# Altium integrated library Integrated_Library_Acura.IntLib: 93 symbols (part 1 of 2)
Pins are listed as number, name and electrical type; pins without a type are passive.

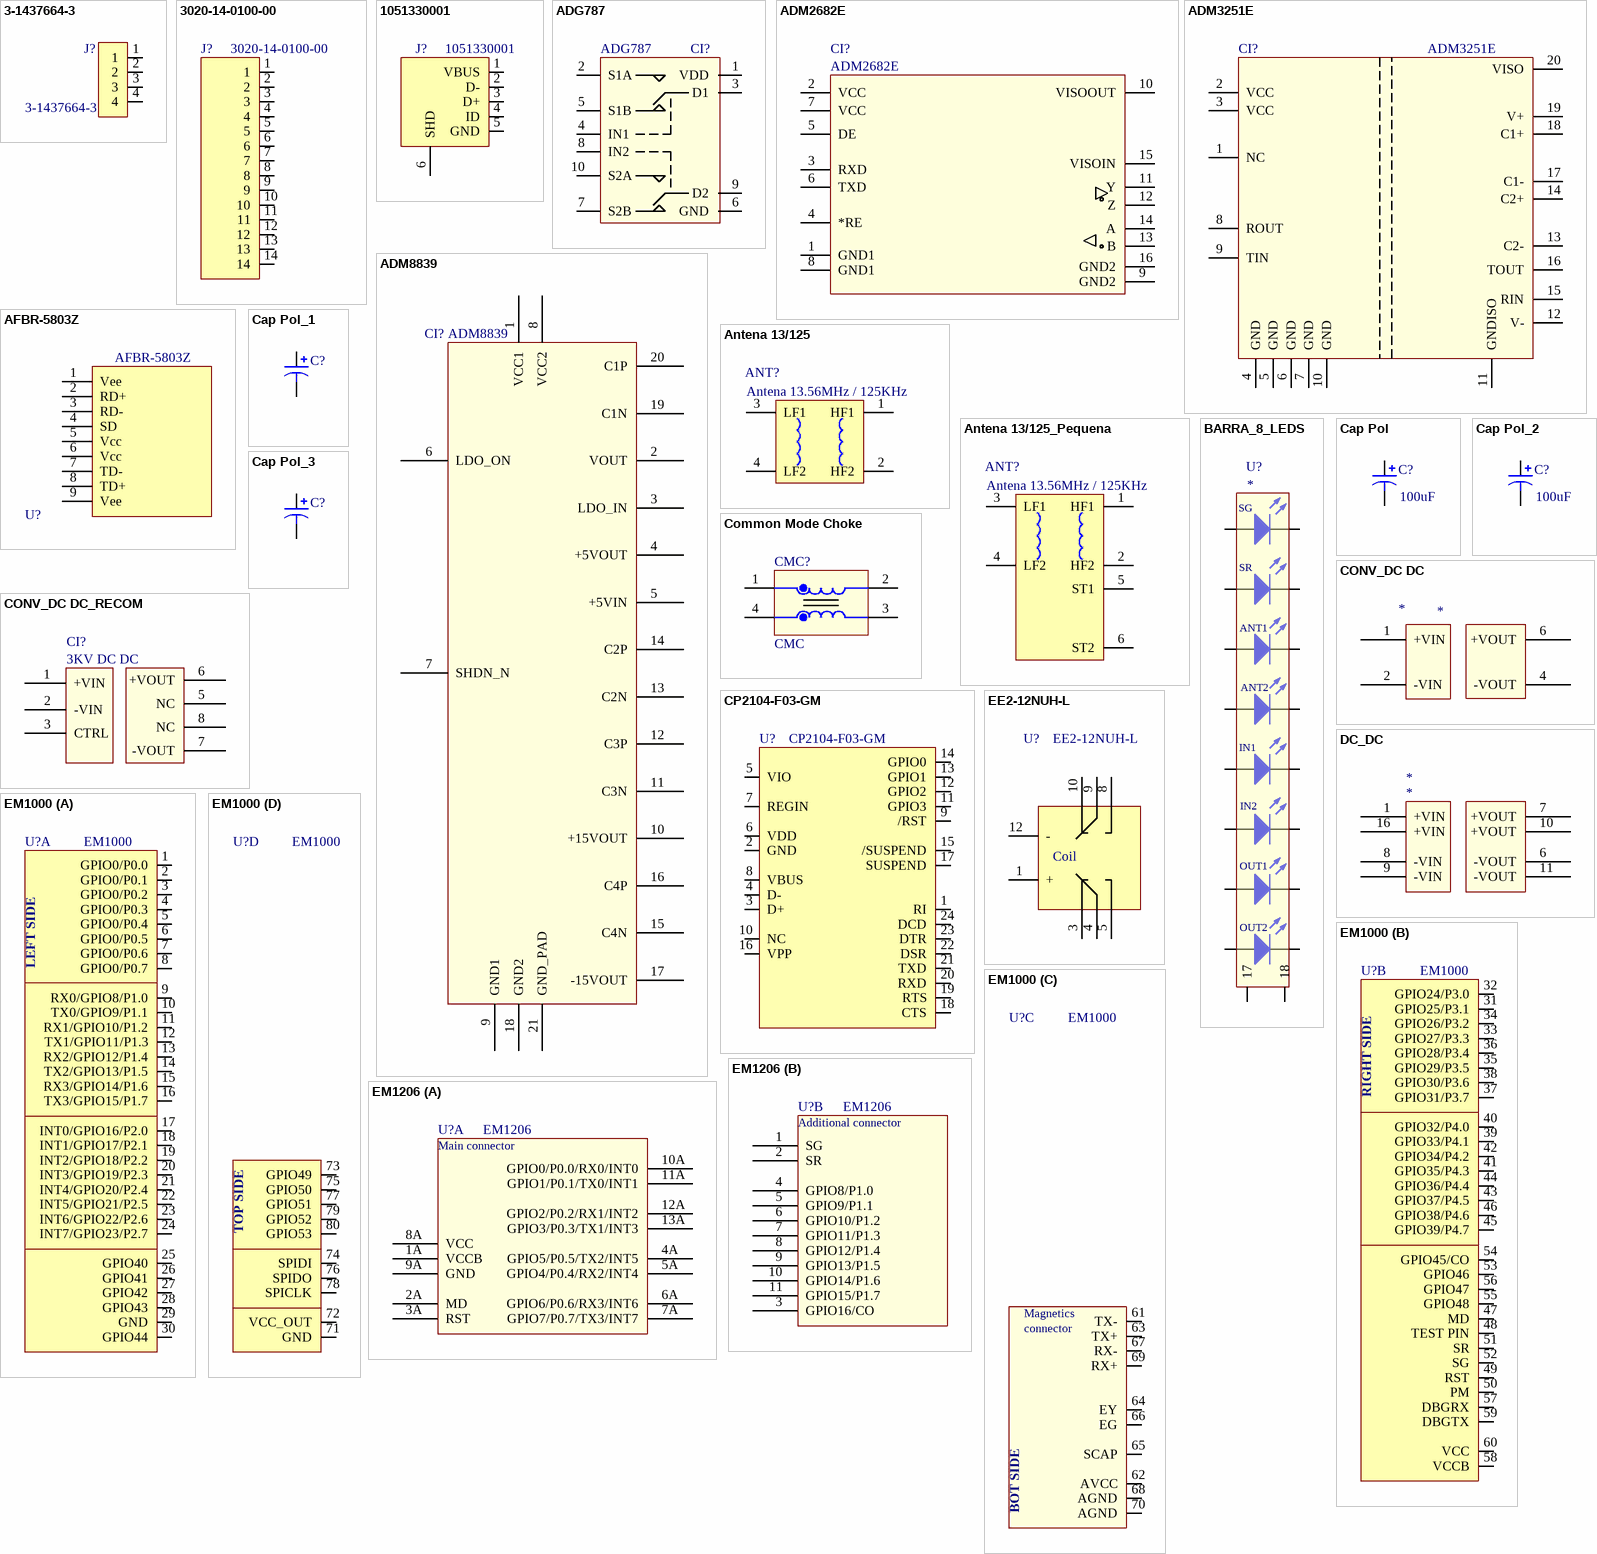
[diagram p0: symbols 3-1437664-3 to EM1206]

## 3-1437664-3
designator J?, comment Manufacturer Part Number: 3-1437664-3  (hidden comment: CONN BARRIER STRIP 4CIRC .375)
Manufacturer: TE Connectivity AMP Connectors; Number of Circuits: 4; Pitch: 0.375" (9.53mm); Current Rating: 20A; Voltage Rating: 300V; Wire Gauge: 12-22 AWG; Top Termination: Screws with Captive Plate; Bottom Termination: PC Pin; Barrier Type: 2 Wall (Dual); Material - Insulation: Polyamide (PA), Nylon; Material Flammability Rating: UL94 V-0; Supplier 1: Digi-Key; RoHS: RoHS Compliant; Category: Connectors, Interconnects; Stock 1: 1612; Pricing 1: 1=1.71, 25=1.62, 50=1.38, 100=1.26, 200=1.06, 500=1.00252 (USD); Packaging: Bulk; Terminal Block Type: Barrier Block; Number of Wire Entries: 4; Number of Rows: 1; Features: -; Color: Black; Terminal Screw Material: Steel; Terminal Screw Finish: Zinc; Mounting Type: Through Hole; Operating Temperature: -40°C ~ 105°C; ComponentLink1URL: http://www.te.com/commerce/DocumentDelivery/DDEController?Action=srchrtrv&DocNm=3-1437664-0&DocType=Customer+Drawing&DocLang=English; ComponentLink1Description: http://www.te.com/commerce/DocumentDelivery/DDEController?Action=srchrtrv&DocNm=3-1437664-0&DocType=Customer+Drawing&DocLang=English; Supplier Part Number 1: A98497-ND
footprint TERM_BARRIER_BLOCK_4p
pins: 1, 2, 3, 4

## 3020-14-0100-00
designator J?, comment Manufacturer Part Number: 3020-14-0100-00  (hidden comment: IDC BOX HEADER .100" 14POS)
Manufacturer: CNC Tech; Connector Type: Header, Shrouded; Number of Positions: 14; Number of Positions Loaded: All; Pitch: 0.100" (2.54mm); Supplier 1: Digi-Key; RoHS: RoHS Compliant; Category: Connectors, Interconnects; Stock 1: 3272; Pricing 1: 1=0.54, 10=0.51, 25=0.4592, 50=0.408, 100=0.391, 250=0.357, 500=0.34, 1000=0.2805, 2500=0.255 (USD); Packaging: Tray; Contact Type: Male Pin; Number of Rows: 2; Row Spacing: 0.100" (2.54mm); Contact Mating Length: -; Mounting Type: Through Hole; Termination: Solder; Fastening Type: -; Features: -; Contact Finish: Gold; Contact Finish Thickness: Flash; Color: -; ComponentLink1URL: http://cnctech.us/pdfs/3020-XX-0100-00.pdf; ComponentLink1Description: http://cnctech.us/pdfs/3020-XX-0100-00.pdf; Supplier Part Number 1: 1175-1610-ND
footprint BOX_HEADER_14p
pins: 1, 2, 3, 4, 5, 6, 7, 8, 9, 10, 11, 12, 13, 14

## 1051330001
designator J?, comment Manufacturer Part Number: 1051330001  (hidden comment: MICRO USB B REC. VERTICAL TYPE)
Manufacturer: Molex, LLC; Connector Type: USB - micro B; Number of Contacts: 5; Gender: Receptacle; Supplier 1: Digi-Key; RoHS: RoHS Compliant; Category: Connectors, Interconnects; Stock 1: 83675; Pricing 1: 1=1.06, 10=0.928, 25=0.8732, 50=0.837, 100=0.8005, 250=0.72776 (USD); Packaging: Cut Tape (CT); Specifications: -; Mounting Type: Surface Mount Vertical; Features: Cover, Shielded; Ingress Protection: -; ComponentLink1URL: http://www.molex.com/pdm_docs/sd/1051330001_sd.pdf; ComponentLink1Description: http://www.molex.com/pdm_docs/sd/1051330001_sd.pdf; Supplier Part Number 1: WM9734CT-ND
footprint MICRO_USB-B_90deg
pins: 1 VBUS, 2 D-, 3 D+, 4 ID, 5 GND, 6 SHD

## ADG787
designator CI?
Part#: ADG787BRMZ; Fabricante: Analog Devices; Cod. Protheus: *
footprint 10-MSOP - S/GND
pins: 1 VDD (power), 2 S1A (power), 3 D1 (power), 4 IN1 (power), 5 S1B (power), 6 GND (power), 7 S2B (power), 8 IN2 (power), 9 D2 (power), 10 S2A (power)

## ADM2682E
designator CI?
5 kV rms Signal and Power Isolated  RS-485 Transceiver with ±15 kV ESD; Part#: ADM2682EBRIZ; Cod. Protheus: ???; Fabricante: Analog Devices; Descrição: Isolated  RS-485 Transceiver
footprint RI-16-1 (For ADM2682E)
pins: 1 GND1, 2 VCC, 3 RXD, 4 *RE, 5 DE, 6 TXD, 7 VCC, 8 GND1, 9 GND2, 10 VISOOUT, 11 Y, 12 Z, 13 B, 14 A, 15 VISOIN, 16 GND2

## ADM3251E
designator CI?
Isolated, Single-Channel  RS-232 Line Driver/Receiver; Part#: ADM3251EARWZ; Fabricante: Analog Devices; Cod. Protheus: ???; Descrição: Isolated, Single-Channel  RS-232 Line Driver/Receiver
footprint RW-20 (For ADM3251E)
pins: 1 NC, 2 VCC, 3 VCC, 4 GND, 5 GND, 6 GND, 7 GND, 8 ROUT, 9 TIN, 10 GND, 11 GNDISO, 12 V-, 13 C2-, 14 C2+, 15 RIN, 16 TOUT, 17 C1-, 18 C1+, 19 V+, 20 VISO

## ADM8839
designator CI?
IC CHARGE PUMP REG TFT 20LFCSP; Part#: ADM8839ACPZ; Fabricante: Analog Devices Inc; Descrição: IC CHARGE PUMP REG TFT 20LFCSP; DigiKey Part#: ADM8839ACPZ-ND
footprint LFCSP-VQ
pins: 1 VCC1, 2 VOUT, 3 LDO_IN, 4 +5VOUT, 5 +5VIN, 6 LDO_ON, 7 SHDN_N, 8 VCC2, 9 GND1, 10 +15VOUT, 11 C3N, 12 C3P, 13 C2N, 14 C2P, 15 C4N, 16 C4P, 17 -15VOUT, 18 GND2, 19 C1N, 20 C1P, 21 GND_PAD

## AFBR-5803Z
designator U?  Manufacturer Part Number: AFBR-5803Z  (hidden comment: *)
TXRX OPT 1X9 100MBPS DUPLEX SC; Manufacturer: Broadcom Limited; Wavelength: 1300nm; Voltage - Supply: 3.3V, 5V; Supplier 1: Digi-Key; RoHS: RoHS Compliant; Category: Optoelectronics; Stock 1: 279; Pricing 1: 1=34.51, 10=30.495, 50=26.643, 100=23.2725, 250=22.06876, 500=21.3465, 1000=20.0625, 2500=19.66125, 5000=19.26 (USD); Data Rate: 100Mbps; Applications: General Purpose; Connector Type: SC; Mounting Type: Through Hole; ComponentLink1URL: http://www.avagotech.com/docs/AV02-0606EN; ComponentLink1Description: http://www.avagotech.com/docs/AV02-0606EN; Supplier Part Number 1: 516-1991-ND
footprint AFBR-5803Z
pins: 1 Vee, 2 RD+, 3 RD-, 4 SD, 5 Vcc, 6 Vcc, 7 TD-, 8 TD+, 9 Vee

## Antena 13/125
designator ANT?, comment Antena 13.56MHz / 125KHz
footprint Antena 13/125 - Pequena
pins: 1 HF1, 2 HF2, 3 LF1, 4 LF2

## Antena 13/125_Pequena
designator ANT?, comment Antena 13.56MHz / 125KHz
footprint Antena 13/125 - Pequena
pins: 1 HF1, 2 HF2, 3 LF1, 4 LF2, 5 ST1, 6 ST2

## BARRA_8_LEDS
designator U?
footprint BARRA_8_LEDS_3MM
pins: 1 A, 2 K, 3 A, 4 K, 5 A, 6 K, 7 A, 8 K, 9 A, 10 K, 11 A, 12 K, 13 A, 14 K, 15 A, 16 K, 17, 18
text: SG; SR; ANT1; ANT2; IN1; IN2; OUT1; OUT2

## Cap Pol
designator C?  value 100uF  (hidden comment: Cap Pol)
CAP ALUM 100UF 20% 63V SMD; Published: 8-Jun-2000; LatestRevisionDate: 17-Jul-2002; LatestRevisionNote: Re-released for DXP Platform.; PackageReference: POLAR0.8; Publisher: Altium Limited; PackageDescription: Polarized Capacitor; 2 Leads
simulation model CAP (Capacitor)
signal-integrity model Cap Pol
footprint CAPPR2.5-6.3X5 (Capacitor, Electrolytic, Radial; Body 6.3 x 5 mm (Dia.xH typ); Pin Spacing 2.5 mm (typ))
footprint CAPPR5-10X12.5 (Capacitor, Electrolytic, Radial; Body 10 x 12.5 mm (Dia.xH typ); Pin Spacing 5 mm (typ))
footprint Radial, Can 8MM- SMD (Radial, Can - SMD)
footprint Radial, Can 10mm - SMD (Radial, Can - SMD (D=10mm, H=10mm))
footprint Radial, Can 6.3MM- SMD (Radial, Can - SMD Diameter 6.3mm)
footprint CAPPR5-10X20 (Capacitor, Electrolytic, Radial; Body 10 x 5 mm (Dia.xH typ); Pin Spacing 5 mm (typ))
pins: 1, 2
1 alternate drawing of the same symbol

## Cap Pol_1
designator C?, comment Cap Pol  (value not drawn)
Polarized Capacitor (Axial); Value: 100pF; Published: 8-Jun-2000; LatestRevisionDate: 17-Jul-2002; LatestRevisionNote: Re-released for DXP Platform.; PackageReference: POLAR0.8; Publisher: Altium Limited; PackageDescription: Polarized Capacitor; 2 Leads
simulation model CAP (Capacitor)
signal-integrity model Cap Pol
footprint CAPPR2.5-6.3X5 (Capacitor, Electrolytic, Radial; Body 6.3 x 5 mm (Dia.xH typ); Pin Spacing 2.5 mm (typ))
footprint CAPPR5-10X12.5 (Capacitor, Electrolytic, Radial; Body 10 x 12.5 mm (Dia.xH typ); Pin Spacing 5 mm (typ))
footprint Radial, Can 8MM- SMD (Radial, Can - SMD)
footprint Radial, Can 10mm - SMD (Radial, Can - SMD (D=10mm, H=10mm))
footprint Radial, Can 6.3MM- SMD (Radial, Can - SMD Diameter 6.3mm)
footprint CAPPR5-10X20 (Capacitor, Electrolytic, Radial; Body 10 x 5 mm (Dia.xH typ); Pin Spacing 5 mm (typ))
pins: 1, 2
1 alternate drawing of the same symbol

## Cap Pol_2
designator C?, comment value 100uF  (hidden comment: Cap Pol)
CAP ALUM 100UF 20% 63V SMD; Published: 8-Jun-2000; LatestRevisionDate: 17-Jul-2002; LatestRevisionNote: Re-released for DXP Platform.; PackageReference: POLAR0.8; Publisher: Altium Limited; PackageDescription: Polarized Capacitor; 2 Leads
simulation model CAP (Capacitor)
signal-integrity model Cap Pol
footprint CAPPR2.5-6.3X5 (Capacitor, Electrolytic, Radial; Body 6.3 x 5 mm (Dia.xH typ); Pin Spacing 2.5 mm (typ))
footprint CAPPR5-10X12.5 (Capacitor, Electrolytic, Radial; Body 10 x 12.5 mm (Dia.xH typ); Pin Spacing 5 mm (typ))
footprint Radial, Can 8MM- SMD (Radial, Can - SMD)
footprint Radial, Can 10mm - SMD (Radial, Can - SMD (D=10mm, H=10mm))
footprint Radial, Can 6.3MM- SMD (Radial, Can - SMD Diameter 6.3mm)
footprint CAPPR5-10X20 (Capacitor, Electrolytic, Radial; Body 10 x 5 mm (Dia.xH typ); Pin Spacing 5 mm (typ))
pins: 1, 2
1 alternate drawing of the same symbol

## Cap Pol_3
designator C?, comment Cap Pol  (value not drawn)
Polarized Capacitor (Axial); Value: 100pF; Published: 8-Jun-2000; LatestRevisionDate: 17-Jul-2002; LatestRevisionNote: Re-released for DXP Platform.; PackageReference: POLAR0.8; Publisher: Altium Limited; PackageDescription: Polarized Capacitor; 2 Leads
simulation model CAP (Capacitor)
signal-integrity model Cap Pol
footprint CAPPR2.5-6.3X5 (Capacitor, Electrolytic, Radial; Body 6.3 x 5 mm (Dia.xH typ); Pin Spacing 2.5 mm (typ))
footprint CAPPR5-10X12.5 (Capacitor, Electrolytic, Radial; Body 10 x 12.5 mm (Dia.xH typ); Pin Spacing 5 mm (typ))
footprint Radial, Can 8MM- SMD (Radial, Can - SMD)
footprint Radial, Can 10mm - SMD (Radial, Can - SMD (D=10mm, H=10mm))
footprint Radial, Can 6.3MM- SMD (Radial, Can - SMD Diameter 6.3mm)
footprint CAPPR5-10X20 (Capacitor, Electrolytic, Radial; Body 10 x 5 mm (Dia.xH typ); Pin Spacing 5 mm (typ))
pins: 1, 2
1 alternate drawing of the same symbol

## Common Mode Choke
designator CMC?, comment CMC
XFRMR MAGNETIC 1PORT 1:1 10/100
footprint Common Mode Choke
pins: 1, 2, 3, 4

## CONV_DC DC
designator *
footprint NMR100 (CONV DC DC)
pins: 1 +VIN (power), 2 -VIN (power), 4 -VOUT (power), 6 +VOUT (power)

## CONV_DC DC_RECOM
designator CI?, comment 3KV DC DC
CONV DC/DC 1W SGL 5V OUT SIP8; Part#: RSO-2405SZ/H3; Fabricante: Recom Power; Descrição: CONV DC/DC 1W SGL 5V OUT SIP8; DigiKey Part#: 945-1331-ND
footprint RSO-XXXX (CONV DC DC RECOM)
pins: 1 +VIN, 2 -VIN, 3 CTRL, 5 NC, 6 +VOUT, 7 -VOUT, 8 NC

## CP2104-F03-GM
designator U?  Manufacturer Part Number: CP2104-F03-GM  (hidden comment: *)
IC SGL USB-TO-UART BRIDGE 24QFN; Manufacturer: Silicon Labs; Protocol: USB; Function: Bridge, USB to UART; Interface: UART; Standards: USB 2.0; Voltage - Supply: 1.8V, 3 V ~ 3.6 V; Current - Supply: 17mA; Supplier 1: Digi-Key; RoHS: RoHS Compliant; Category: Integrated Circuits (ICs); Stock 1: 6723; Pricing 1: 1=1.5, 25=1.4456, 100=1.3899, 1000=1.3108 (USD); Packaging: Tube; Operating Temperature: -40°C ~ 85°C; Package / Case: 24-WFQFN Exposed Pad; Supplier Device Package: 24-QFN (4x4); ComponentLink1URL: https://www.silabs.com/Support%20Documents/TechnicalDocs/cp2104.pdf; ComponentLink1Description: https://www.silabs.com/Support%20Documents/TechnicalDocs/cp2104.pdf; Supplier Part Number 1: 336-2008-5-ND
footprint Quad24
pins: 1 RI, 2 GND, 3 D+, 4 D-, 5 VIO, 6 VDD, 7 REGIN, 8 VBUS, 9 /RST, 10 NC, 11 GPIO3, 12 GPIO2, 13 GPIO1, 14 GPIO0, 15 /SUSPEND, 16 VPP, 17 SUSPEND, 18 CTS, 19 RTS, 20 RXD, 21 TXD, 22 DSR, 23 DTR, 24 DCD

## DC_DC
designator *
footprint CONV_DC_DC_SRS
pins: 1 +VIN (power), 6 -VOUT (power), 7 +VOUT (power), 8 -VIN (power), 9 -VIN (power), 10 +VOUT (power), 11 -VOUT (power), 16 +VIN (power)

## EE2-12NUH-L
designator U?, comment Manufacturer Part Number: EE2-12NUH-L  (hidden comment: RELAY GEN PURPOSE DPDT 2A 12V)
Manufacturer: Kemet; Relay Type: General Purpose; Coil Type: Non Latching; Coil Current: 11.7mA; Coil Voltage: 12VDC; Contact Form: DPDT (2 Form C); Switching Voltage: 250VAC, 220VDC - Max; Turn On Voltage (Max): 9 VDC; Turn Off Voltage (Min): 1.2 VDC; Operate Time: 2ms; Release Time: 1ms; Coil Power: 140 mW; Coil Resistance: 1.03 kOhms; Supplier 1: Digi-Key; RoHS: RoHS Compliant; Category: Relays; Stock 1: 1500; Pricing 1: 500=1.27576, 1000=1.1907, 2500=1.16944, 5000=1.14818, 12500=1.13116 (USD); Packaging: Tape & Reel (TR); Contact Rating (Current): 2A; Features: -; Mounting Type: Surface Mount; Termination Style: Gull Wing; Contact Material: Silver Alloy, Gold Alloy; Operating Temperature: -40°C ~ 85°C; ComponentLink1URL: http://www.kemet.com/docfinder?Partnumber=EE2-12NUH-L; ComponentLink1Description: http://www.kemet.com/docfinder?Partnumber=EE2-12NUH-L; Supplier Part Number 1: 399-10996-2-ND
footprint RELAY_2C_SFM (GP Relay SR2M Surface Mount)
pins: 1 +, 3 NC2, 4 CO2, 5 NO2, 8 NO1, 9 CO1, 10 NC1, 12 -
text: Coil

## EM1000
designator U?
BASIC-programmable embedded module
footprint EM1000 (Mod Tibbo EM1000 without RJ45)
part A pins: 1 GPIO0/P0.0, 2 GPIO0/P0.1, 3 GPIO0/P0.2, 4 GPIO0/P0.3, 5 GPIO0/P0.4, 6 GPIO0/P0.5, 7 GPIO0/P0.6, 8 GPIO0/P0.7, 9 RX0/GPIO8/P1.0, 10 TX0/GPIO9/P1.1, 11 RX1/GPIO10/P1.2, 12 TX1/GPIO11/P1.3, 13 RX2/GPIO12/P1.4, 14 TX2/GPIO13/P1.5, 15 RX3/GPIO14/P1.6, 16 TX3/GPIO15/P1.7, 17 INT0/GPIO16/P2.0, 18 INT1/GPIO17/P2.1, 19 INT2/GPIO18/P2.2, 20 INT3/GPIO19/P2.3, 21 INT4/GPIO20/P2.4, 22 INT5/GPIO21/P2.5, 23 INT6/GPIO22/P2.6, 24 INT7/GPIO23/P2.7, 25 GPIO40, 26 GPIO41, 27 GPIO42, 28 GPIO43, 29 GND, 30 GPIO44
part B pins: 31 GPIO25/P3.1, 32 GPIO24/P3.0, 33 GPIO27/P3.3, 34 GPIO26/P3.2, 35 GPIO29/P3.5, 36 GPIO28/P3.4, 37 GPIO31/P3.7, 38 GPIO30/P3.6, 39 GPIO33/P4.1, 40 GPIO32/P4.0, 41 GPIO35/P4.3, 42 GPIO34/P4.2, 43 GPIO37/P4.5, 44 GPIO36/P4.4, 45 GPIO39/P4.7, 46 GPIO38/P4.6, 47 MD, 48 TEST PIN, 49 RST, 50 PM, 51 SR, 52 SG, 53 GPIO46, 54 GPIO45/CO, 55 GPIO48, 56 GPIO47, 57 DBGRX, 58 VCCB, 59 DBGTX, 60 VCC
part C pins: 61 TX-, 62 AVCC, 63 TX+, 64 EY, 65 SCAP, 66 EG, 67 RX-, 68 AGND, 69 RX+, 70 AGND
part D pins: 71 GND, 72 VCC_OUT, 73 GPIO49, 74 SPIDI, 75 GPIO50, 76 SPIDO, 77 GPIO51, 78 SPICLK, 79 GPIO52, 80 GPIO53
part A text: LEFT SIDE
part B text: RIGHT SIDE
part C text: Magnetics; connector; BOT SIDE
part D text: TOP SIDE

## EM1206
designator U?
BASIC-programmable embedded module
footprint RJ203+EM1206 (BASIC-programmable embedded module); pin to pad 1>1B 2>2B 3>3B 4>4B 5>5B 6>6B 7>7B 8>8B 9>9B 10>10B 11>11B
part A pins: 1A VCCB (power), 2A MD (power), 3A RST (power), 4A GPIO5/P0.5/TX2/INT5 (power), 5A GPIO4/P0.4/RX2/INT4 (power), 6A GPIO6/P0.6/RX3/INT6 (power), 7A GPIO7/P0.7/TX3/INT7 (power), 8A VCC (power), 9A GND (power), 10A GPIO0/P0.0/RX0/INT0 (power), 11A GPIO1/P0.1/TX0/INT1 (power), 12A GPIO2/P0.2/RX1/INT2 (power), 13A GPIO3/P0.3/TX1/INT3 (power)
part B pins: 1 SG (power), 2 SR (power), 3 GPIO16/CO (power), 4 GPIO8/P1.0 (power), 5 GPIO9/P1.1 (power), 6 GPIO10/P1.2 (power), 7 GPIO11/P1.3 (power), 8 GPIO12/P1.4 (power), 9 GPIO13/P1.5 (power), 10 GPIO14/P1.6 (power), 11 GPIO15/P1.7 (power)
part A text: Main connector
part B text: Additional connector

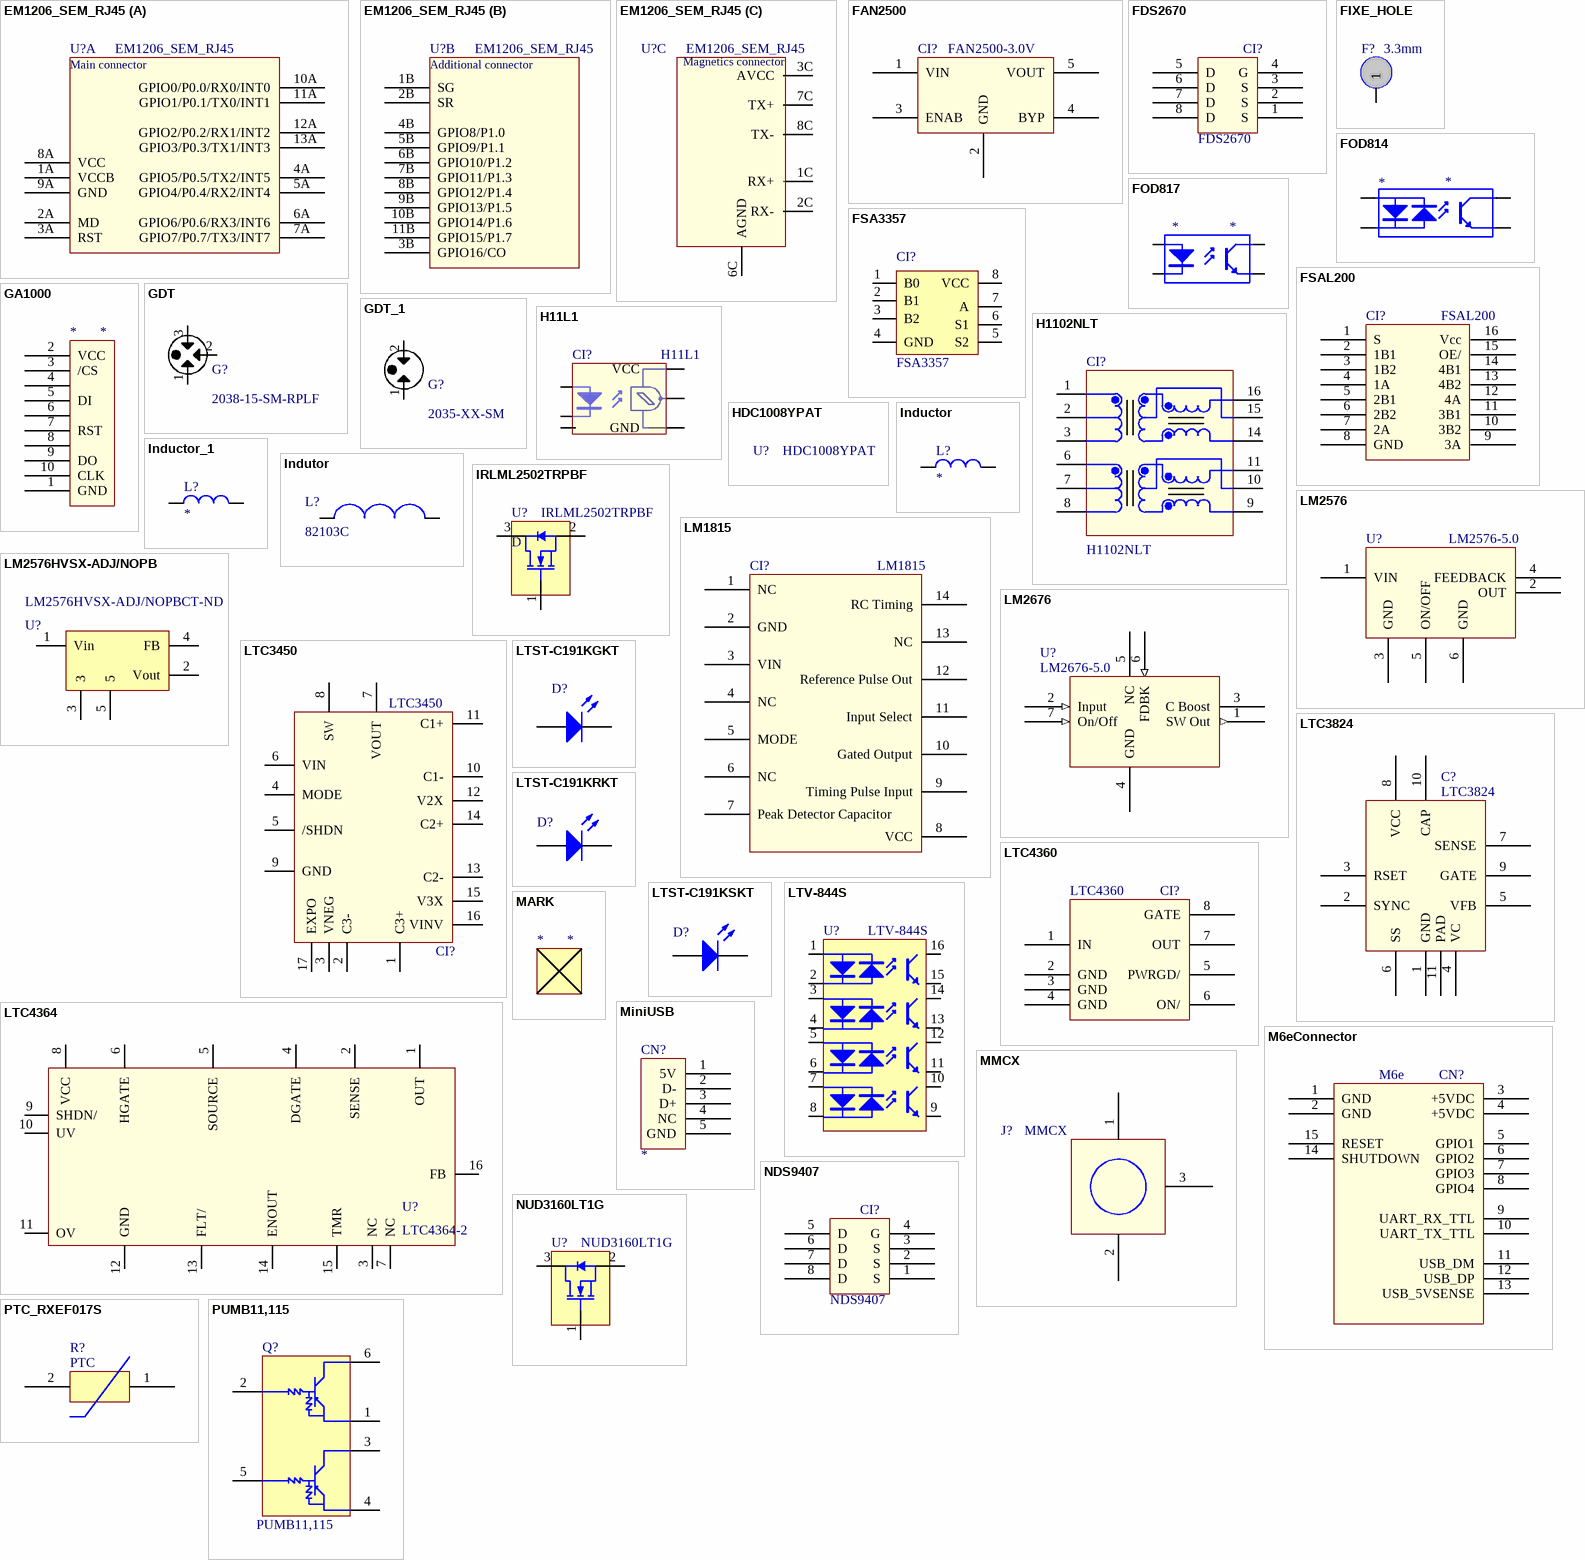
[diagram p1: symbols EM1206_SEM_RJ45 to PUMB11,115]

## EM1206_SEM_RJ45
designator U?
BASIC-programmable embedded module
footprint EM1206 (BASIC-programmable embedded module)
part A pins: 1A VCCB (power), 2A MD (power), 3A RST (power), 4A GPIO5/P0.5/TX2/INT5 (power), 5A GPIO4/P0.4/RX2/INT4 (power), 6A GPIO6/P0.6/RX3/INT6 (power), 7A GPIO7/P0.7/TX3/INT7 (power), 8A VCC (power), 9A GND (power), 10A GPIO0/P0.0/RX0/INT0 (power), 11A GPIO1/P0.1/TX0/INT1 (power), 12A GPIO2/P0.2/RX1/INT2 (power), 13A GPIO3/P0.3/TX1/INT3 (power)
part B pins: 1B SG (power), 2B SR (power), 3B GPIO16/CO (power), 4B GPIO8/P1.0 (power), 5B GPIO9/P1.1 (power), 6B GPIO10/P1.2 (power), 7B GPIO11/P1.3 (power), 8B GPIO12/P1.4 (power), 9B GPIO13/P1.5 (power), 10B GPIO14/P1.6 (power), 11B GPIO15/P1.7 (power)
part C pins: 1C RX+, 2C RX-, 3C AVCC, 6C AGND, 7C TX+, 8C TX-
part A text: Main connector
part B text: Additional connector
part C text: Magnetics connector

## FAN2500
designator CI?, comment FAN2500-3.0V
IC REG LDO 3V 0.1A SOT23-5; Part#: FAN2500S30X; Fabricante: Fairchild; Descrição: IC REG LDO 3V 0.1A SOT23-5; DigiKey Part#: FAN2500S30XCT-ND
footprint SOT-23
pins: 1 VIN (power), 2 GND (power), 3 ENAB, 4 BYP, 5 VOUT (power)

## FDS2670
designator CI?
200V N-Channel PowerTrench MOSFET; Fabricante: Fairchild; Cod. Protheus: *; Part#: FDS2670
footprint 8-SOIC
pins: 1 S (power), 2 S (power), 3 S (power), 4 G (power), 5 D (power), 6 D (power), 7 D (power), 8 D (power)

## FIXE_HOLE
designator F?, comment 3.3mm
footprint FIXE_HOLE
pins: 1

## FOD814
designator *
footprint FOD814
pins: 1 AK "Anode", 2 KA "Cathode", 3 E "Emitter", 4 C "Collector"

## FOD817
designator *
footprint FOD814
pins: 1 AK "Anode", 2 KA "Cathode", 3 E "Emitter", 4 C "Collector"

## FSA3357
designator CI?
IC SWITCH SP3T US8; Part#: FSA3357K8X; Fabricante: Fairchild; Cod. Protheus: ???; Descrição: IC SWITCH SP3T US8
footprint MAB08A (FSA3357)
pins: 1 B0, 2 B1, 3 B2, 4 GND (power), 5 S2, 6 S1, 7 A, 8 VCC (power)

## FSAL200
designator CI?
footprint FSAL2--_QSOP
pins: 1 S (power), 2 1B1 (power), 3 1B2 (power), 4 1A (power), 5 2B1 (power), 6 2B2 (power), 7 2A (power), 8 GND (power), 9 3A (power), 10 3B2 (power), 11 3B1 (power), 12 4A (power), 13 4B2 (power), 14 4B1 (power), 15 OE/ (power), 16 Vcc (power)

## GA1000
designator *
footprint GA1000_PCB
pins: 1 GND (power), 2 VCC (power), 3 /CS (power), 4 (power), 5 DI (power), 6 (power), 7 RST (power), 8 (power), 9 DO (power), 10 CLK (power)

## GDT
designator G?, comment 2038-15-SM-RPLF
GAS DISCHARGE TUBE GDT 150V SM; Fabricante: Bourns; Cod. Protheus: ???; Part#: 2038-15-SM-RPLF; Descrição: GAS DISCHARGE TUBE GDT 150V SM
footprint GDT (Gas Discharge Tube)
pins: 1 Signal, 2 GND, 3 Signal

## GDT_1
designator G?, comment 2035-XX-SM
Precision Gas Discharge Tube Surge Protector; Part#: 2035-09-SM-RPLF; Descrição: SURGE ARRESTER GDT 90V SMT; Fabricante: Bourns; Cod. Protheus: ???
footprint GDT2 (Gas Discharge Tube)
pins: 1 GND, 2 Signal

## H11L1
designator CI?
Part#: H11L1SR2M; Descrição: OPTOCOUPLER SCHMITT TRIG 6-SMD; Fabricante: Fairchild; USD: 1.10
footprint 4N25_SMD
pins: 1 ANODE "Anode", 2 CATHODE "Cathode", 3 NC "Cathode", 4 VOUT "Emitter", 5 GND (power) "Emitter", 6 VCC (power) "Collector"

## H1102NLT
designator CI?
XFRMR MAGNETIC 1PORT 1:1 10/100; Fabricante: Pulse Electronics Corporation; Part#: H1102NLT
footprint H1102
pins: 1, 2, 3, 6, 7, 8, 9, 10, 11, 14, 15, 16

## HDC1008YPAT
designator U?, comment Manufacturer Part Number: HDC1008YPAT  (hidden comment: HUMIDITY AND TEMPERATURE SENSOR)
Manufacturer: Texas Instruments; Sensor Type: Humidity, Temperature; Humidity Range: 0 ~ 100% RH; Output Type: I²C; Output: 14b; Accuracy: ±4% RH; Response Time: 15s; Voltage - Supply: 3 V ~ 5 V; Supplier 1: Digi-Key; RoHS: RoHS Compliant; Category: Sensors, Transducers; Stock 1: 2919; Pricing 1: 1=2.07 (USD); Sensitivity: -; Mounting Type: Surface Mount; Operating Temperature: -20°C ~ 85°C; ComponentLink1URL: http://www.ti.com/lit/ds/symlink/hdc1008.pdf; ComponentLink1Description: http://www.ti.com/lit/ds/symlink/hdc1008.pdf; Supplier Part Number 1: 296-38440-1-ND

## Inductor
designator L?  (value not drawn)
Magnetic-Core Inductor; Value: *
simulation model INDUCTOR (Inductor)
signal-integrity model Inductor Iron
footprint SLF-SMT (SLF Series inductor)
footprint NRG-SMT (Nonstandard SMT)
pins: 1, 2

## Inductor_1
designator L?, comment Inductor  (value not drawn)
Magnetic-Core Inductor; Value: *
simulation model INDUCTOR (Inductor)
signal-integrity model Inductor Iron
footprint SLF-SMT (SLF Series inductor)
footprint NRG-SMT (Nonstandard SMT)
pins: 1, 2

## Indutor
designator L?, comment 82103C
footprint 8200 Series (Inductor)
pins: 1 (power), 2 (power)

## IRLML2502TRPBF
designator U?, comment Manufacturer Part Number: IRLML2502TRPBF  (hidden comment: MOSFET N-CH 20V 4.2A SOT-23)
Manufacturer: Infineon Technologies Americas Corp.; FET Type: MOSFET N-Channel, Metal Oxide; FET Feature: Standard; Current - Continuous Drain (Id) @ 25°C: 4.2A (Ta); Rds On (Max) @ Id, Vgs: 45 mOhm @ 4.2A, 4.5V; Vgs(th) (Max) @ Id: 1.2V @ 250µA; Gate Charge (Qg) @ Vgs: 12nC @ 5V; Input Capacitance (Ciss) @ Vds: 740pF @ 15V; Power - Max: 1.25W; Supplier 1: Digi-Key; RoHS: RoHS Compliant; Category: Discrete Semiconductor Products; Stock 1: 102000; Pricing 1: 3000=0.1044, 6000=0.0986, 15000=0.0899, 30000=0.0841, 75000=0.0754, 150000=0.0725 (USD); Packaging: Tape & Reel (TR); Drain to Source Voltage (Vdss): 20V; Operating Temperature: -55°C ~ 150°C (TJ); Mounting Type: Surface Mount; Package / Case: TO-236-3, SC-59, SOT-23-3; Supplier Device Package: Micro3™/SOT-23; ComponentLink1URL: http://www.irf.com/product-info/datasheets/data/irlml2502pbf.pdf; ComponentLink1Description: http://www.irf.com/product-info/datasheets/data/irlml2502pbf.pdf; Supplier Part Number 1: IRLML2502PBFTR-ND
footprint SOT23-3pins
pins: 1, 2, 3 D

## LM1815
designator CI?
Adaptive Variable Reluctance Sensor Amplifier
footprint DIP-14 (DIP; 14 Leads; Row Spacing 7.62 mm; Pitch 2.54 mm)
pins: 1 NC, 2 GND (power), 3 VIN (power), 4 NC, 5 MODE, 6 NC, 7 Peak Detector Capacitor, 8 VCC (power), 9 Timing Pulse Input, 10 Gated Output, 11 Input Select, 12 Reference Pulse Out, 13 NC, 14 RC Timing

## LM2576
designator U?, comment LM2576-5.0
IC REG BUCK 5V 3A TO263-5; Part#: LM2576HVSX-5.0/NOPB; Fabricante: Texas Instruments; DigiKey Part#: LM2576HVSX-5.0/NOPBCT-ND; Descrição: IC REG BUCK 5V 3A TO263-5
footprint TO-263 5pin
pins: 1 VIN, 2 OUT, 3 GND (power), 4 FEEDBACK, 5 ON/OFF (power), 6 GND (power)

## LM2576HVSX-ADJ/NOPB
designator U?, comment Supplier Part Number 1: LM2576HVSX-ADJ/NOPBCT-ND  (hidden comment: Texas Instruments)
IC REG BUCK ADJ 3A DDPAK; Manufacturer Part Number: LM2576HVSX-ADJ/NOPB; Function: Step-Down; Output Configuration: Positive; Output Type: Adjustable; Number of Outputs: 1; Voltage - Input (Min): 4V; Voltage - Input (Max): 60V; Voltage - Output (Min/Fixed): 1.23V; Voltage - Output (Max): 57V; Frequency - Switching: 52kHz; Synchronous Rectifier: No; Supplier 1: Digi-Key; Manufacturer: Texas Instruments; RoHS: RoHS Compliant By Exemption; Category: Integrated Circuits (ICs); Stock 1: 2870; Pricing 1: 1=5.65, 10=5.072, 100=4.1607 (USD); Packaging: Cut Tape (CT); Topology: Buck; Current - Output: 3A; Operating Temperature: -40°C ~ 125°C (TJ); Mounting Type: Surface Mount; Package / Case: TO-263-6, D²Pak (5 Leads + Tab), TO-263BA; Supplier Device Package: DDPAK/TO-263-5; ComponentLink1URL: http://www.ti.com/lit/ds/symlink/lm2576hv.pdf; ComponentLink1Description: http://www.ti.com/lit/ds/symlink/lm2576hv.pdf
footprint TO-263 5pin
pins: 1 Vin, 2 Vout, 3, 4 FB, 5

## LM2676
designator U?, comment LM2676-5.0
footprint TO263 PKG (TO-263 Surface Mount Power Package)
pins: 1 SW Out (out), 2 Input (in), 3 C Boost, 4 GND (power), 5 NC (power), 6 FDBK (in), 7 On/Off (in)

## LTC3450
designator CI?
IC CONV PS TRIPLE TFT/LCD 16QFN; Part#: LTC3450EUD#PBF; Fabricante: Linear Technology; Cod. Protheus: *; DigiKey Part#: LTC3450EUD#PBF-ND; Descrição: IC CONV PS TRIPLE TFT/LCD 16QFN
footprint 16-LPQFN (16-Lead Plastic QFN (3mm × 3mm))
pins: 1 C3+, 2 C3-, 3 VNEG, 4 MODE, 5 /SHDN, 6 VIN, 7 VOUT, 8 SW, 9 GND, 10 C1-, 11 C1+, 12 V2X, 13 C2-, 14 C2+, 15 V3X, 16 VINV, 17 EXPO

## LTC3824
designator C?
High Voltage Step-Down Controller
footprint LTC3824
pins: 1 GND (power), 2 SYNC (power), 3 RSET (power), 4 VC (power), 5 VFB (power), 6 SS (power), 7 SENSE (power), 8 VCC (power), 9 GATE (power), 10 CAP (power), 11 PAD (power)

## LTC4360
designator CI?
Part#: LTC4360-1; Fabricante: Linear Technology; Cod. Protheus: *
footprint LTC4360 (Overvoltage Protection)
pins: 1 IN (power), 2 GND (power), 3 GND (power), 4 GND (power), 5 PWRGD/, 6 ON/, 7 OUT (power), 8 GATE (power)

## LTC4364
designator U?, comment LTC4364-2
Surge Stopper; Part#: LTC4364IMS-2#PBF; Cod. Protheus: ???; Fabricante: Linear Technology; Descrição: Surge Stopper with Ideal Diode
footprint LTC4364 (Surge Stopper)
pins: 1 OUT (power), 2 SENSE (power), 3 NC (power), 4 DGATE (power), 5 SOURCE (power), 6 HGATE (power), 7 NC (power), 8 VCC (power), 9 SHDN/, 10 UV (power), 11 OV (power), 12 GND (power), 13 FLT/ (power), 14 ENOUT (power), 15 TMR (power), 16 FB (power)

## LTST-C191KGKT
designator D?, comment LED GREEN CLEAR 0603 SMD  (value not drawn)
Manufacturer: Lite-On Inc.; Manufacturer Part Number: LTST-C191KGKT; Lens Color: Colorless; Millicandela Rating: 35mcd; Lens Style/Size: Rectangle with Flat Top, 1.10mm x 0.80mm; Voltage - Forward (Vf) (Typ): 2V; Current - Test: 20mA; Viewing Angle: 130°; Wavelength - Dominant: 571nm; Wavelength - Peak: 574nm; Supplier 1: Digi-Key; RoHS: RoHS Compliant; Category: Optoelectronics; Stock 1: 292841; Pricing 1: 1=0.28, 10=0.222, 100=0.1212, 250=0.0808, 500=0.06868, 1000=0.05252, 2500=0.04747 (USD); Packaging: Cut Tape (CT); Color: Green; Lens Transparency: Clear; Mounting Type: Surface Mount; Features: -; Package / Case: 0603 (1608 Metric); Supplier Device Package: *; Size / Dimension: 1.60mm L x 0.80mm W; Height (Max): 0.55mm; ComponentLink1URL: http://optoelectronics.liteon.com/upload/download/DS22-2000-228/S_110_LTST-C191KGKT.pdf; ComponentLink1Description: http://optoelectronics.liteon.com/upload/download/DS22-2000-228/S_110_LTST-C191KGKT.pdf; Supplier Part Number 1: 160-1446-1-ND
footprint LED_SMD_0603
pins: 1 A, 2 K

## LTST-C191KRKT
designator D?, comment LED RED CLEAR 0603 SMD  (value not drawn)
Manufacturer: Lite-On Inc.; Manufacturer Part Number: LTST-C191KRKT; Lens Color: Colorless; Millicandela Rating: 54mcd; Lens Style/Size: Rectangle with Flat Top, 1.10mm x 0.80mm; Voltage - Forward (Vf) (Typ): 2V; Current - Test: 20mA; Viewing Angle: 130°; Wavelength - Dominant: 631nm; Wavelength - Peak: 639nm; Supplier 1: Digi-Key; RoHS: RoHS Compliant; Category: Optoelectronics; Stock 1: 584685; Pricing 1: 1=0.28, 10=0.222, 100=0.1212, 250=0.0808, 500=0.06868, 1000=0.05252, 2500=0.04747 (USD); Packaging: Cut Tape (CT); Color: Red; Lens Transparency: Clear; Mounting Type: Surface Mount; Features: -; Package / Case: 0603 (1608 Metric); Supplier Device Package: *; Size / Dimension: 1.60mm L x 0.80mm W; Height (Max): 0.55mm; ComponentLink1URL: http://optoelectronics.liteon.com/upload/download/DS22-2000-223/S_110_LTST-C191KRKT.pdf; ComponentLink1Description: http://optoelectronics.liteon.com/upload/download/DS22-2000-223/S_110_LTST-C191KRKT.pdf; Supplier Part Number 1: 160-1447-1-ND
footprint LED_SMD_0603
pins: 1 A, 2 K

## LTST-C191KSKT
designator D?, comment LED YELLOW CLEAR 0603 SMD  (value not drawn)
Manufacturer: Lite-On Inc.; Manufacturer Part Number: LTST-C191KSKT; Lens Color: Colorless; Millicandela Rating: 104mcd; Lens Style/Size: Rectangle with Flat Top, 1.10mm x 0.80mm; Voltage - Forward (Vf) (Typ): 2.1V; Current - Test: 20mA; Viewing Angle: 130°; Wavelength - Dominant: 591nm; Wavelength - Peak: 588nm; Supplier 1: Digi-Key; RoHS: RoHS Compliant; Category: Optoelectronics; Stock 1: 42156; Pricing 1: 1=0.3, 10=0.237, 100=0.129, 250=0.086, 500=0.0731, 1000=0.0559, 2500=0.05052 (USD); Packaging: Cut Tape (CT); Color: Yellow; Lens Transparency: Clear; Mounting Type: Surface Mount; Features: -; Package / Case: 0603 (1608 Metric); Supplier Device Package: *; Size / Dimension: 1.60mm L x 0.80mm W; Height (Max): 0.55mm; ComponentLink1URL: http://optoelectronics.liteon.com/upload/download/DS22-2000-224/S_110_LTST-C191KSKT.pdf; ComponentLink1Description: http://optoelectronics.liteon.com/upload/download/DS22-2000-224/S_110_LTST-C191KSKT.pdf; Supplier Part Number 1: 160-1448-1-ND
footprint LED_SMD_0603
pins: 1 A, 2 K

## LTV-844S
designator U?, comment Manufacturer Part Number: LTV-844S  (hidden comment: OPTOISOLTR 5KV 4CH TRANS 16-SMD)
Manufacturer: Lite-On Inc.; Number of Channels: 4; Voltage - Isolation: 5000Vrms; Current Transfer Ratio (Min): 20% @ 1mA; Current Transfer Ratio (Max): 300% @ 1mA; Rise / Fall Time (Typ): 4µs, 3µs; Input Type: AC, DC; Output Type: Transistor; Voltage - Output (Max): 35V; Current - Output / Channel: 50mA; Voltage - Forward (Vf) (Typ): 1.2V; Vce Saturation (Max): 200mV; Supplier 1: Digi-Key; RoHS: RoHS Compliant; Category: Isolators; Stock 1: 27067; Pricing 1: 1=1.42, 10=1.15, 100=0.7961, 250=0.7076, 500=0.60146, 1000=0.49532, 2500=0.47056, 5000=0.45994, 10000=0.44225 (USD); Packaging: Tube; Turn On / Turn Off Time (Typ): -; Current - DC Forward (If) (Max): 50mA; Operating Temperature: -30°C ~ 100°C; Mounting Type: Surface Mount; Package / Case: 16-SMD, Gull Wing; Supplier Device Package: 16-SMD; ComponentLink1URL: http://optoelectronics.liteon.com/upload/download/DS-70-96-0013/S_110_LTV-814%20824%20844%20(M,%20S,%20S-TA,%20S-TA1,%20S-TP)%20Series.pdf; ComponentLink1Description: http://optoelectronics.liteon.com/upload/download/DS-70-96-0013/S_110_LTV-814%20824%20844%20(M,%20S,%20S-TA,%20S-TA1,%20S-TP)%20Series.pdf; Supplier Part Number 1: 160-1349-5-ND
footprint SOP-16
pins: 1, 2, 3, 4, 5, 6, 7, 8, 9, 10, 11, 12, 13, 14, 15, 16

## M6eConnector
designator CN?, comment M6e
M6e module connector
footprint M6e_PicoBlade 1.25mm SMD (M6e_0532611571_1.25mm Pitch PicoBlade Header, Surface Mount, Right Angle, Lead-Free, 15 Circuits)
footprint M6e_PicoBlade 1.25mm TH (M6e_0530481510_1.25mm Pitch PicoBlade Header, Surface Mount, Right Angle, Lead-Free, 15 Circuits)
footprint DUO_M6e_PicoBlade 1.25mm TH
pins: 1 GND (power), 2 GND (power), 3 +5VDC (power), 4 +5VDC (power), 5 GPIO1 (power), 6 GPIO2 (power), 7 GPIO3 (power), 8 GPIO4 (power), 9 UART_RX_TTL (power), 10 UART_TX_TTL (power), 11 USB_DM (power), 12 USB_DP (power), 13 USB_5VSENSE (power), 14 SHUTDOWN (power), 15 RESET (power)

## MARK
designator *
footprint PICK_PLACE_MARK

## MiniUSB
designator CN?
Mini USB 5 vias
footprint MINI_USB (Mini USB 5 vias)
pins: 1 5V (power), 2 D- (power), 3 D+ (power), 4 NC (power), 5 GND (power)

## MMCX
designator J?
CONN MMCX JACK 50 OHM EDGE MNT; Part#: 135-3711-801; Fabricante: Emerson; Descrição: CONN MMCX JACK 50 OHM EDGE MNT; DigiKey Part#: J603-ND
footprint MMCX
pins: 1 GND, 2 GND, 3 SIGNAL

## NDS9407
designator CI?
60V P-Channel PowerTrench MOSFET
footprint NDS9407CT
pins: 1 S (power), 2 S (power), 3 S (power), 4 G (power), 5 D (power), 6 D (power), 7 D (power), 8 D (power)

## NUD3160LT1G
designator U?, comment Manufacturer Part Number: NUD3160LT1G  (hidden comment: IC INDCT LOAD DRVR INDUST SOT23)
Manufacturer: ON Semiconductor; Switch Type: Relay, Solenoid Driver; Number of Outputs: 1; Ratio - Input:Output: 1:1; Output Configuration: Low Side; Output Type: N-Channel; Interface: On/Off; Voltage - Load: 61V (Max); Voltage - Supply (Vcc/Vdd): Not Required; Current - Output (Max): 150mA; Rds On (Typ): 1.8 Ohm (Max); Supplier 1: Digi-Key; RoHS: RoHS Compliant; Category: Integrated Circuits (ICs); Stock 1: 6210; Pricing 1: 1=0.41, 10=0.356, 100=0.2659, 500=0.20884, 1000=0.161 (USD); Packaging: Cut Tape (CT); Input Type: -; Features: -; Fault Protection: -; Operating Temperature: -40°C ~ 125°C (TA); Package / Case: TO-236-3, SC-59, SOT-23-3; Supplier Device Package: SOT-23-3 (TO-236); ComponentLink1URL: http://www.onsemi.com/pub_link/Collateral/NUD3160-D.PDF; ComponentLink1Description: http://www.onsemi.com/pub_link/Collateral/NUD3160-D.PDF; Supplier Part Number 1: NUD3160LT1GOSCT-ND
footprint SOT23-3pins
pins: 1, 2, 3

## PTC_RXEF017S
designator R?, comment PTC
footprint PTC
pins: 1 0 (power), 2 1 (power)

## PUMB11,115
designator Q?, comment Manufacturer Part Number: PUMB11,115  (hidden comment: TRANS 2PNP PREBIAS 0.3W 6TSSOP)
Manufacturer: NXP Semiconductors; Transistor Type: 2 PNP - Pre-Biased (Dual); Current - Collector (Ic) (Max): 100mA; Voltage - Collector Emitter Breakdown (Max): 50V; Resistor - Base (R1) (Ohms): 10k; DC Current Gain (hFE) (Min) @ Ic, Vce: 30 @ 5mA, 5V; Vce Saturation (Max) @ Ib, Ic: 150mV @ 500µA, 10mA; Current - Collector Cutoff (Max): 1µA; Power - Max: 300mW; Supplier 1: Digi-Key; RoHS: RoHS Compliant; Category: Discrete Semiconductor Products; Stock 1: 13024; Pricing 1: 1=0.37, 10=0.3, 100=0.1591, 500=0.1046, 1000=0.07127 (USD); Packaging: Cut Tape (CT); Resistor - Emitter Base (R2) (Ohms): 10k; Frequency - Transition: -; Mounting Type: Surface Mount; Package / Case: 6-TSSOP, SC-88, SOT-363; Supplier Device Package: 6-TSSOP; ComponentLink1URL: http://www.nxp.com/documents/data_sheet/PEMB11_PUMB11.pdf; ComponentLink1Description: http://www.nxp.com/documents/data_sheet/PEMB11_PUMB11.pdf; Supplier Part Number 1: 568-6547-1-ND
footprint SOT363
pins: 1, 2, 3, 4, 5, 6

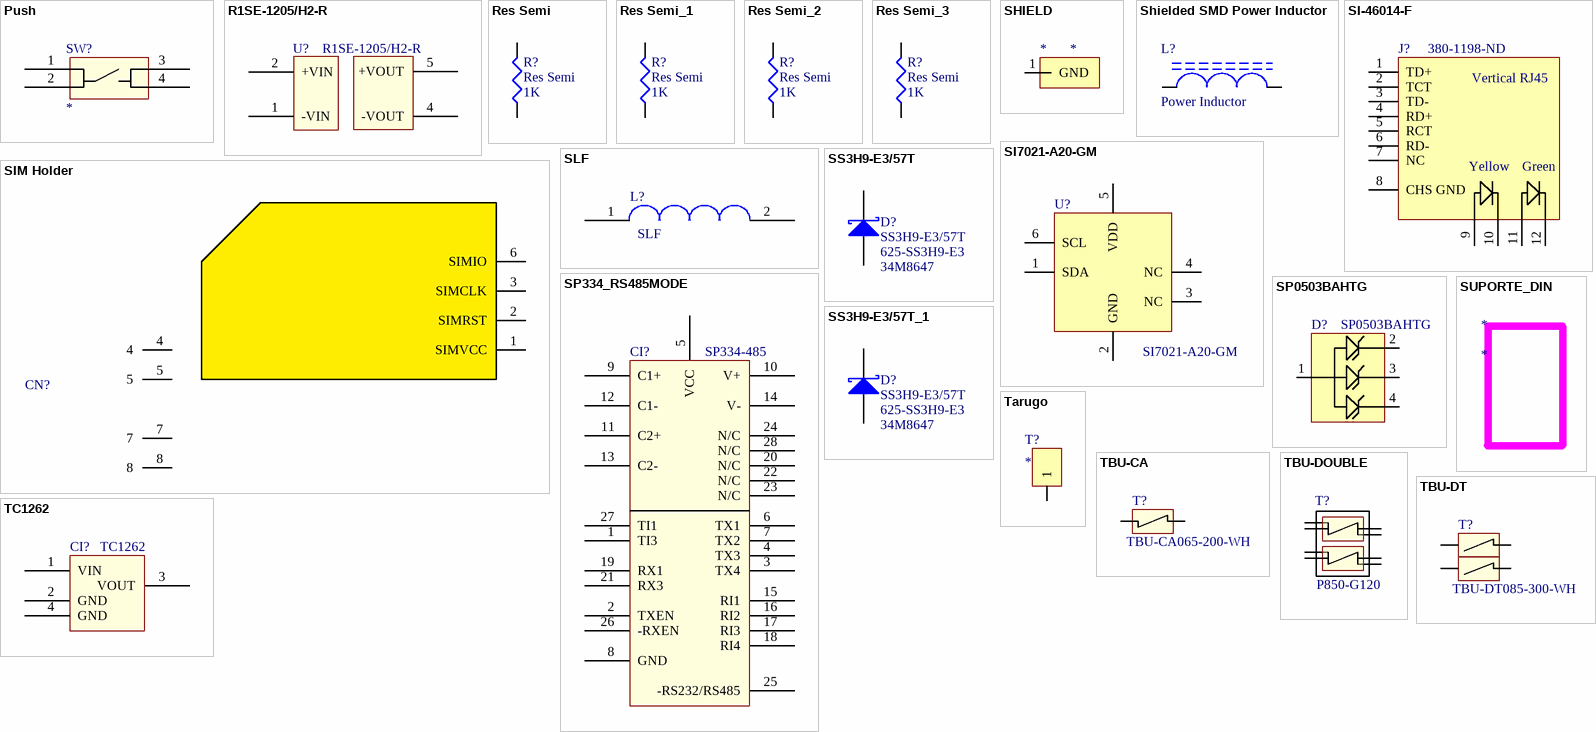
[diagram p2: symbols Push to TC1262]

## Push
designator SW?
footprint SW SPST-4 (Circuit Breaker; 2 Leads)
pins: 1 (power), 2 (power), 3 (power), 4 (power)

## R1SE-1205/H2-R
designator U?, comment Manufacturer Part Number: R1SE-1205/H2-R  (hidden comment: CONV DC/DC 1W 12VIN 05VOUT)
Manufacturer: Recom Power; Number of Outputs: 1; Voltage - Input (Min): 10.8V; Voltage - Input (Max): 13.2V; Voltage - Output 1: 5V; Current - Output (Max): 200mA; Voltage - Isolation: 2kV (2000V); Efficiency: 73%; Supplier 1: Digi-Key; RoHS: RoHS Compliant; Category: Power Supplies - Board Mount; Stock 1: 831; Pricing 1: 1=4.55, 5=4.49, 10=4.428, 25=4.3052, 50=4.059, 100=3.936, 250=3.813 (USD); Packaging: Cut Tape (CT); Type: Isolated Module; Voltage - Output 2: -; Voltage - Output 3: -; Power (Watts) - Manufacture Series: 1W; Applications: ITE (Commercial); Features: -; Mounting Type: Surface Mount; Package / Case: 8-SMD Module (5 Leads); Size / Dimension: 0.50" L x 0.42" W x 0.26" H (12.8mm x 10.7mm x 6.7mm); Operating Temperature: -40°C ~ 100°C; Power (Watts) - Max: 1W; ComponentLink1URL: http://www.recom-power.com/pdf/Econoline/R1SE_H2.pdf; ComponentLink1Description: http://www.recom-power.com/pdf/Econoline/R1SE_H2.pdf; Supplier Part Number 1: 945-2275-1-ND
pins: 1 -VIN (power), 2 +VIN (power), 4 -VOUT (power), 5 +VOUT (power)

## Res Semi
designator R?  value 1K
Resistor; Published: 8-Jun-2000; LatestRevisionDate: 29-May-2009; LatestRevisionNote: IPC-7351 Footprint Added.; PackageReference: J1-0603; Publisher: Altium Limited; PackageDescription: Chip Resistor
simulation model RESISTOR (Resistor)
signal-integrity model Res
footprint Res-0603(1608 Metric) (Chip Resistor, Body 1.6x0.8mm, IPC High Density)
footprint RES-1206(3216 Metric) (Chip Resistor, Body 3.2x1.6mm, IPC High Density)
pins: 1, 2

## Res Semi_1
designator R?, comment Res Semi  value 1K
Resistor; Published: 8-Jun-2000; LatestRevisionDate: 29-May-2009; LatestRevisionNote: IPC-7351 Footprint Added.; PackageReference: J1-0603; Publisher: Altium Limited; PackageDescription: Chip Resistor
simulation model RESISTOR (Resistor)
signal-integrity model Res
footprint Res-0603(1608 Metric) (Chip Resistor, Body 1.6x0.8mm, IPC High Density)
footprint RES-1206(3216 Metric) (Chip Resistor, Body 3.2x1.6mm, IPC High Density)
pins: 1, 2

## Res Semi_2
designator R?, comment Res Semi  value 1K
Resistor; Published: 8-Jun-2000; LatestRevisionDate: 29-May-2009; LatestRevisionNote: IPC-7351 Footprint Added.; PackageReference: J1-0603; Publisher: Altium Limited; PackageDescription: Chip Resistor
simulation model RESISTOR (Resistor)
signal-integrity model Res
footprint Res-0603(1608 Metric) (Chip Resistor, Body 1.6x0.8mm, IPC High Density)
footprint RES-1206(3216 Metric) (Chip Resistor, Body 3.2x1.6mm, IPC High Density)
pins: 1, 2

## Res Semi_3
designator R?, comment Res Semi  value 1K
Resistor; Published: 8-Jun-2000; LatestRevisionDate: 29-May-2009; LatestRevisionNote: IPC-7351 Footprint Added.; PackageReference: J1-0603; Publisher: Altium Limited; PackageDescription: Chip Resistor
simulation model RESISTOR (Resistor)
signal-integrity model Res
footprint Res-0603(1608 Metric) (Chip Resistor, Body 1.6x0.8mm, IPC High Density)
footprint RES-1206(3216 Metric) (Chip Resistor, Body 3.2x1.6mm, IPC High Density)
pins: 1, 2

## SHIELD
designator *
footprint SHIELD_PCB
pins: 1 GND

## Shielded SMD Power Inductor
designator L?, comment Power Inductor
footprint Power Inductor (Inductor)
pins: 1 (power), 2 (power)

## SI7021-A20-GM
designator U?, comment Manufacturer Part Number: SI7021-A20-GM  (hidden comment: IC TEMP SENSOR RH 3% 6DFN)
Manufacturer: Silicon Labs; Sensor Type: Humidity, Temperature; Humidity Range: 0 ~ 100% RH; Output Type: I²C; Output: 12b; Accuracy: ±3% RH; Response Time: 18S; Voltage - Supply: 1.9 V ~ 3.6 V; Supplier 1: Digi-Key; RoHS: RoHS Compliant; Category: Sensors, Transducers; Stock 1: 1038; Pricing 1: 1=3.06, 25=2.9496, 100=2.8363, 1000=2.71199 (USD); Sensitivity: -; Mounting Type: Surface Mount; Operating Temperature: -40°C ~ 85°C; ComponentLink1URL: https://www.silabs.com/Support%20Documents/TechnicalDocs/Si7021-A20.pdf; ComponentLink1Description: https://www.silabs.com/Support%20Documents/TechnicalDocs/Si7021-A20.pdf; Supplier Part Number 1: 336-3140-5-ND
footprint DFN 6p 3x3mm
pins: 1 SDA, 2 GND, 3 NC, 4 NC, 5 VDD, 6 SCL

## SI-46014-F
designator J?, comment Supplier Part Number 1: 380-1198-ND  (hidden comment: Stewart Connector)
CONN MAGJACK 1PORT 100 BASE-T; Manufacturer Part Number: SI-46014-F; Connector Type: RJ45; Number of Ports: 1; LED Color: Yellow - Green; Number of Cores per Jack: 4; Shielding: Shielded; Tab Direction: User Selectable; Shield Material: Copper Alloy; Supplier 1: Digi-Key; Manufacturer: Stewart Connector; RoHS: RoHS Compliant; Category: Connectors, Interconnects; Stock 1: 10649; Pricing 1: 1=4.1, 10=3.934, 50=3.442, 100=3.278, 250=2.86824, 500=2.7863, 1000=2.37655, 2500=2.21265, 5000=2.1307 (USD); Packaging: Tray; Number of Rows: 1; Applications: 10/100 Base-T, AutoMDIX; Mounting Type: Through Hole; Orientation: Vertical; Termination: Solder; Height Above Board: 0.670" (17.02mm); Features: Board Lock; Contact Material: Copper Alloy; Contact Finish: Gold; Contact Finish Thickness: 50µin (1.27µm); Housing Material: Thermoplastic; Operating Temperature: -40°C ~ 85°C; ComponentLink1URL: http://belfuse.com/pdfs/SI-46014-F.pdf; ComponentLink1Description: http://belfuse.com/pdfs/SI-46014-F.pdf
footprint RJ45_Vertical (Conector RJ45 vertical, com LEDs)
pins: 1 TD+, 2 TCT, 3 TD-, 4 RD+, 5 RCT, 6 RD-, 7 NC, 8 CHS GND, 9, 10, 11, 12
text: Vertical RJ45; Yellow; Green

## SIM Holder
designator CN?  (value not drawn)
pins: 1 SIMVCC, 2 SIMRST, 3 SIMCLK, 4, 5, 6 SIMIO, 7, 8

## SLF
designator L?
footprint SLF10165T
pins: 1 0 (power), 2 1 (power)

## SP334_RS485MODE
designator CI?, comment SP334-485
footprint SP334
pins: 1 TI3 (power), 2 TXEN (power), 3 TX4 (power), 4 TX3 (power), 5 VCC (power), 6 TX1 (power), 7 TX2 (power), 8 GND (power), 9 C1+ (power), 10 V+ (power), 11 C2+ (power), 12 C1- (power), 13 C2- (power), 14 V- (power), 15 RI1 (power), 16 RI2 (power), 17 RI3 (power), 18 RI4 (power), 19 RX1 (power), 20 N/C (power), 21 RX3 (power), 22 N/C (power), 23 N/C (power), 24 N/C (power), 25 -RS232/RS485 (power), 26 -RXEN (power), 27 TI1 (power), 28 N/C (power)

## SP0503BAHTG
designator D?, comment Manufacturer Part Number: SP0503BAHTG  (hidden comment: TVS DIODE 5.5VWM 8.5VC SOT143)
Manufacturer: Littelfuse Inc.; Type: Zener; Unidirectional Channels: 3; Voltage - Reverse Standoff (Typ): 5.5V (Max); Voltage - Clamping (Max) @ Ipp: 8.5V; Power Line Protection: No; Supplier 1: Digi-Key; RoHS: RoHS Compliant; Category: Circuit Protection; Stock 1: 32556; Pricing 1: 1=0.88, 10=0.769, 25=0.6796, 100=0.5921, 250=0.51548, 500=0.43878, 1000=0.35145 (USD); Packaging: Cut Tape (CT); Bidirectional Channels: -; Voltage - Breakdown (Min): -; Current - Peak Pulse (10/1000µs): -; Power - Peak Pulse: -; Applications: General Purpose; Capacitance @ Frequency: -; Operating Temperature: -40°C ~ 85°C (TA); Mounting Type: Surface Mount; Package / Case: TO-253-4, TO-253AA; Supplier Device Package: SOT-143-4; ComponentLink1URL: http://www.littelfuse.com/~/media/files/littelfuse/technical%20resources/documents/data%20sheets/sp05xxba.pdf; ComponentLink1Description: http://www.littelfuse.com/~/media/files/littelfuse/technical%20resources/documents/data%20sheets/sp05xxba.pdf; Supplier Part Number 1: F2715CT-ND
footprint SOT143
pins: 1, 2, 3, 4

## SS3H9-E3/57T
designator D?  Supplier Part Number 2: 625-SS3H9-E3  Supplier Part Number 3: 34M8647
DIODE SCHOTTKY 90V 3A DO214AB; Manufacturer: Vishay Semiconductor Diodes Division; Voltage - Forward (Vf) (Max) @ If: 800mV @ 3A; Speed: Fast Recovery =< 500ns, > 200mA (Io); Current - Reverse Leakage @ Vr: 20µA @ 90V; Configuration: Single; Brand: Vishay Semiconductors; Ifsm - Forward Surge Current: 100 A; Ir - Reverse Current: 20 uA; Vf - Forward Voltage: 0.8 V; Repetitive Reverse Voltage Vrrm Max: 90; Forward Current If(AV): 3; Forward Voltage VF Max: 800; Diode Case Style: SMD; Supplier 1: Digi-Key; Manufacturer Part Number: SS3H9-E3/57T; RoHS: RoHS Compliant; Category: Discrete Semiconductor Products; Stock 1: 14838; Pricing 1: 1=0.69, 10=0.603, 25=0.5324, 100=0.464, 250=0.40388 (USD); Packaging: Cut Tape (CT); Diode Type: Schottky; Voltage - DC Reverse (Vr) (Max): 90V; Current - Average Rectified (Io): 3A; Reverse Recovery Time (trr): -; Capacitance @ Vr, F: -; Mounting Type: Surface Mount; Package / Case: DO-214AB, SMC; Supplier Device Package: DO-214AB, (SMC); Operating Temperature - Junction: -65°C ~ 175°C; ComponentLink1URL: http://www.vishay.com/docs/88752/ss3h9.pdf; ComponentLink1Description: http://www.vishay.com/docs/88752/ss3h9.pdf; Supplier Part Number 1: SS3H9-E3/57TGICT-ND; Supplier 2: Mouser; Stock 2: 7590; Pricing 2: 1=0.675, 10=0.594, 100=0.513, 250=0.452, 500=0.392, 850=0.338, 1700=0.321, 4250=0.296 (AUD); Product: Schottky Rectifiers; Series: SS3x; Technology: Si; Mounting Style: SMD/SMT; If - Forward Current: 3 A; Maximum Operating Temperature: + 175 C; Minimum Operating Temperature: - 65 C; Product Category: Schottky Rectifiers; Standard Pack Qty: 850; Vrrm - Repetitive Reverse Voltage: 90 V; RoHS - Mouser: E; Minimum Order Quantity: 1; Reeling: True; ComponentLink2URL: http://www.mouser.com/ds/2/427/ss3h9-14107.pdf; ComponentLink2Description: http://www.mouser.com/ds/2/427/ss3h9-14107.pdf; Supplier 3: Newark; Stock 3: 332; Pricing 3: 1=0,414, 10=0,392, 50=0,359, 100=0,324, 500=0,315, 1000=0,306, 3000=0,297, 9000=0,284 (USD); Diode Configuration: Single; Reverse Recovery Time trr Max: -; ComponentLink3URL: http://www.farnell.com/datasheets/64540.pdf; ComponentLink3Description: http://www.farnell.com/datasheets/64540.pdf
footprint DO-214AB (SMC J-Bend)
pins: 1 A, 2 K

## SS3H9-E3/57T_1
designator D?, comment SS3H9-E3/57T  Supplier Part Number 2: 625-SS3H9-E3  Supplier Part Number 3: 34M8647
DIODE SCHOTTKY 90V 3A DO214AB; Manufacturer: Vishay Semiconductor Diodes Division; Voltage - Forward (Vf) (Max) @ If: 800mV @ 3A; Speed: Fast Recovery =< 500ns, > 200mA (Io); Current - Reverse Leakage @ Vr: 20µA @ 90V; Configuration: Single; Brand: Vishay Semiconductors; Ifsm - Forward Surge Current: 100 A; Ir - Reverse Current: 20 uA; Vf - Forward Voltage: 0.8 V; Repetitive Reverse Voltage Vrrm Max: 90; Forward Current If(AV): 3; Forward Voltage VF Max: 800; Diode Case Style: SMD; Supplier 1: Digi-Key; Manufacturer Part Number: SS3H9-E3/57T; RoHS: RoHS Compliant; Category: Discrete Semiconductor Products; Stock 1: 14838; Pricing 1: 1=0.69, 10=0.603, 25=0.5324, 100=0.464, 250=0.40388 (USD); Packaging: Cut Tape (CT); Diode Type: Schottky; Voltage - DC Reverse (Vr) (Max): 90V; Current - Average Rectified (Io): 3A; Reverse Recovery Time (trr): -; Capacitance @ Vr, F: -; Mounting Type: Surface Mount; Package / Case: DO-214AB, SMC; Supplier Device Package: DO-214AB, (SMC); Operating Temperature - Junction: -65°C ~ 175°C; ComponentLink1URL: http://www.vishay.com/docs/88752/ss3h9.pdf; ComponentLink1Description: http://www.vishay.com/docs/88752/ss3h9.pdf; Supplier Part Number 1: SS3H9-E3/57TGICT-ND; Supplier 2: Mouser; Stock 2: 7590; Pricing 2: 1=0.675, 10=0.594, 100=0.513, 250=0.452, 500=0.392, 850=0.338, 1700=0.321, 4250=0.296 (AUD); Product: Schottky Rectifiers; Series: SS3x; Technology: Si; Mounting Style: SMD/SMT; If - Forward Current: 3 A; Maximum Operating Temperature: + 175 C; Minimum Operating Temperature: - 65 C; Product Category: Schottky Rectifiers; Standard Pack Qty: 850; Vrrm - Repetitive Reverse Voltage: 90 V; RoHS - Mouser: E; Minimum Order Quantity: 1; Reeling: True; ComponentLink2URL: http://www.mouser.com/ds/2/427/ss3h9-14107.pdf; ComponentLink2Description: http://www.mouser.com/ds/2/427/ss3h9-14107.pdf; Supplier 3: Newark; Stock 3: 332; Pricing 3: 1=0,414, 10=0,392, 50=0,359, 100=0,324, 500=0,315, 1000=0,306, 3000=0,297, 9000=0,284 (USD); Diode Configuration: Single; Reverse Recovery Time trr Max: -; ComponentLink3URL: http://www.farnell.com/datasheets/64540.pdf; ComponentLink3Description: http://www.farnell.com/datasheets/64540.pdf
footprint DO-214AB (SMC J-Bend)
pins: 1 A, 2 K

## SUPORTE_DIN
designator *
footprint SUP_DIN_SP-TR_PATOLA
footprint SUP_DIN_PHOENIX

## Tarugo
designator T?
footprint TARUGO
pins: 1

## TBU-CA
designator T?, comment TBU-CA065-200-WH
SURGE SUPP TBU 200MA 650VIMP SMD; Cod. Protheus: ???; Fabricante: Bourns; Descrição: SURGE SUPP TBU 200MA 650VIMP SMD; Part#: TBU-CA065-200-WH
footprint TBU-CA
pins: 1 IN/OUT, 3 IN/OUT

## TBU-DOUBLE
designator T?, comment P850-G120
SURGE SUPP TBU 100MA 850VIMP SMD; Part#: P850-G120-WH; Fabricante: Bourns; Descrição: SURGE SUPP TBU 100MA 850VIMP SMD
footprint TBU-P850
pins: 1 TIP IN, 1A TIP IN, 3 TIP OUT, 3A TIP OUT, 4 RING OUT, 4A RING OUT, 6 RING IN, 6A RING IN

## TBU-DT
designator T?, comment TBU-DT085-300-WH
SURGE SUPP TBU DL 300MA 850VIMP; Cod. Protheus: ???; Fabricante: Bourns; Descrição: SURGE SUPP TBU DL 300MA 850VIMP; Part#: TBU-DT085-300-WH
footprint TBU-DT 085
pins: 1 Line, 2 Load, 3 Load, 4 Line

## TC1262
designator CI?
footprint SOT-223
pins: 1 VIN (power), 2 GND (power), 3 VOUT (power), 4 GND (power)

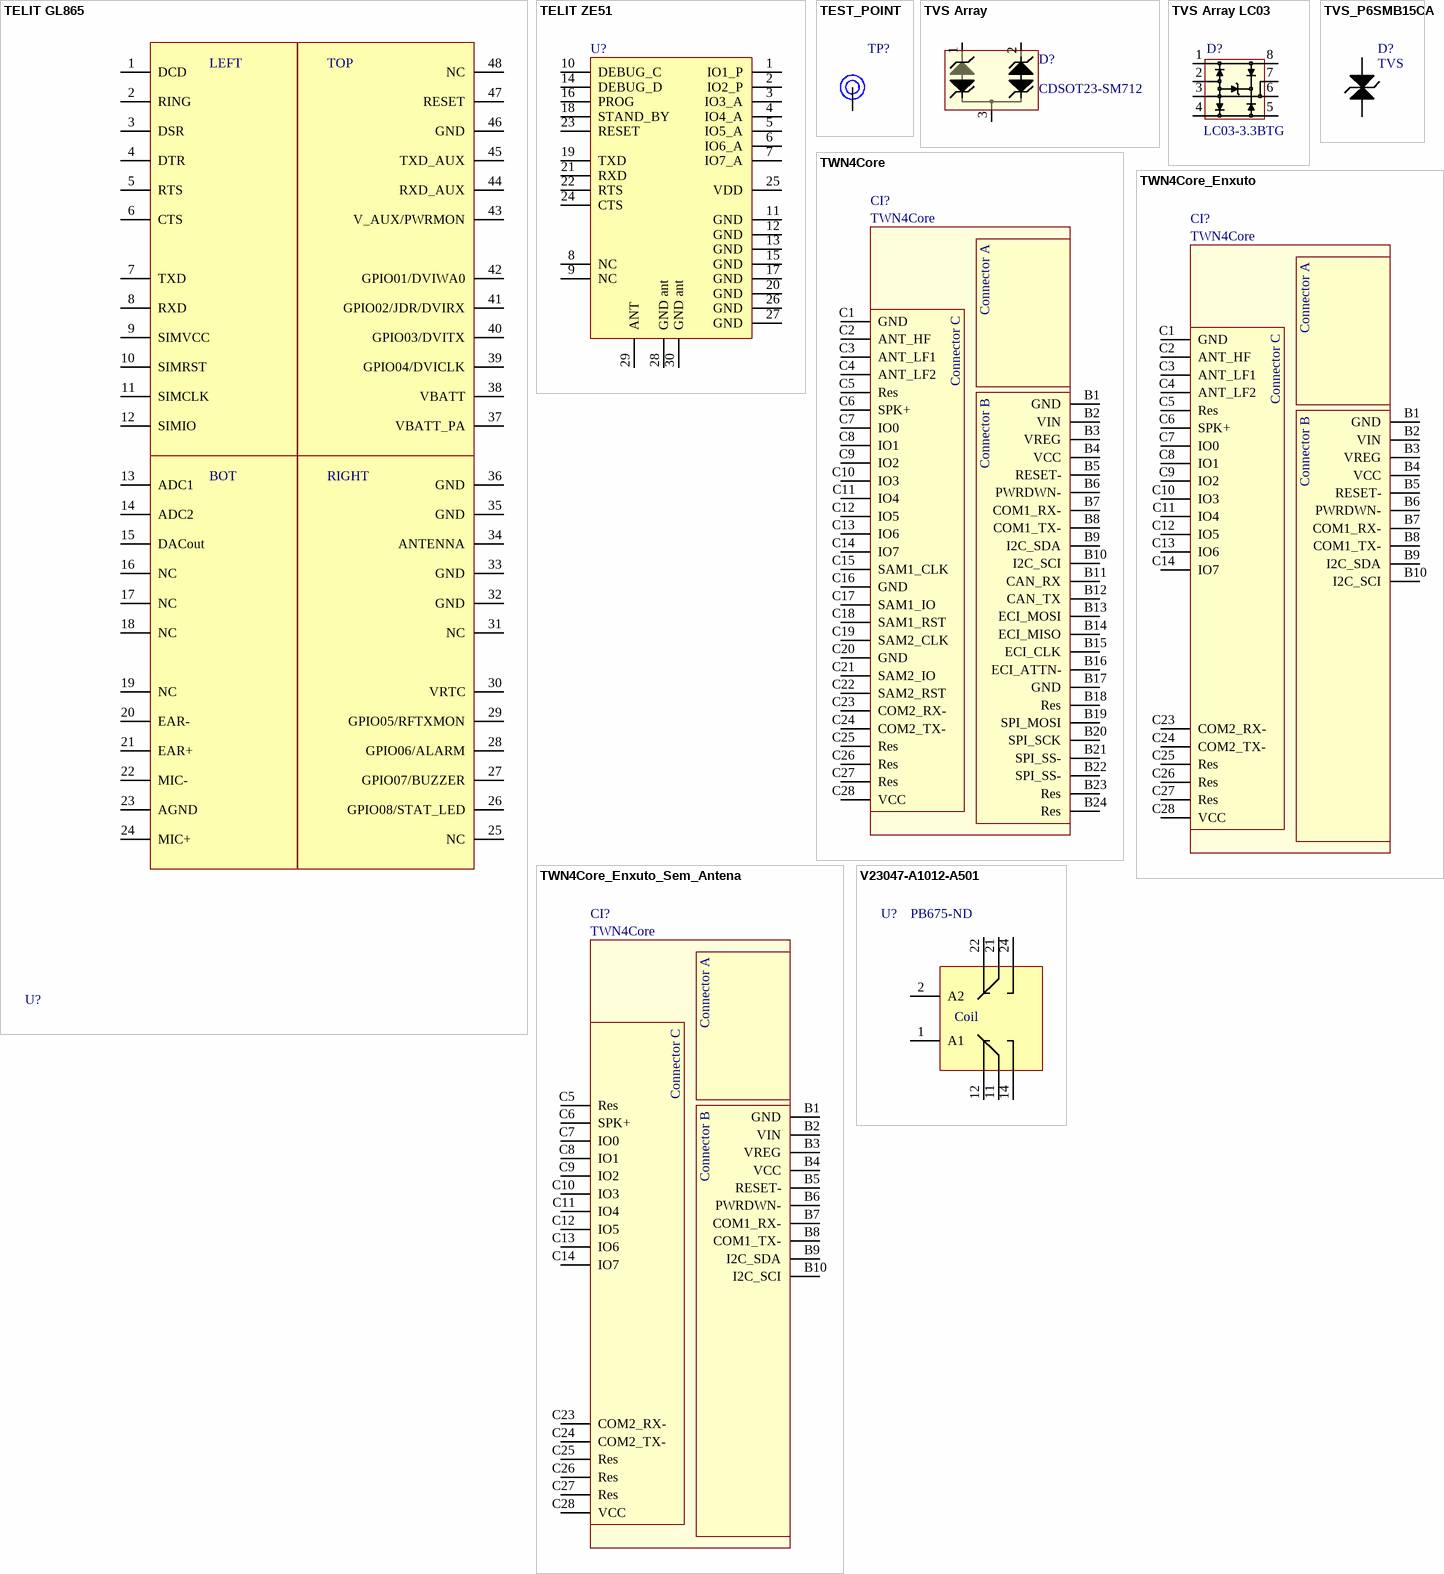
[diagram p3: symbols TELIT GL865 to V23047-A1012-A501]

## TELIT GL865
designator U?  (value not drawn)
pins: 1 DCD, 2 RING, 3 DSR, 4 DTR, 5 RTS, 6 CTS, 7 TXD, 8 RXD, 9 SIMVCC, 10 SIMRST, 11 SIMCLK, 12 SIMIO, 13 ADC1, 14 ADC2, 15 DACout, 16 NC, 17 NC, 18 NC, 19 NC, 20 EAR-, 21 EAR+, 22 MIC-, 23 AGND, 24 MIC+, 25 NC, 26 GPIO08/STAT_LED, 27 GPIO07/BUZZER, 28 GPIO06/ALARM, 29 GPIO05/RFTXMON, 30 VRTC, 31 NC, 32 GND, 33 GND, 34 ANTENNA, 35 GND, 36 GND, 37 VBATT_PA, 38 VBATT, 39 GPIO04/DVICLK, 40 GPIO03/DVITX, 41 GPIO02/JDR/DVIRX, 42 GPIO01/DVIWA0, 43 V_AUX/PWRMON, 44 RXD_AUX, 45 TXD_AUX, 46 GND, 47 RESET, 48 NC
text: LEFT; TOP; BOT; RIGHT

## TELIT ZE51
designator U?  (value not drawn)
Mod Zigbee ZE51 w/ antenna
pins: 1 IO1_P, 2 IO2_P, 3 IO3_A, 4 IO4_A, 5 IO5_A, 6 IO6_A, 7 IO7_A, 8 NC, 9 NC, 10 DEBUG_C, 11 GND, 12 GND, 13 GND, 14 DEBUG_D, 15 GND, 16 PROG, 17 GND, 18 STAND_BY, 19 TXD, 20 GND, 21 RXD, 22 RTS, 23 RESET, 24 CTS, 25 VDD, 26 GND, 27 GND, 28 GND ant, 29 ANT, 30 GND ant

## TEST_POINT
designator TP?, comment TEST POINT  (value not drawn)
footprint TEST_POINT
pins: 1

## TVS Array
designator D?, comment CDSOT23-SM712
IC TVS ARRAY 7V 12V SOT23; Cod. Protheus: ???; Fabricante: Bourns; Descrição: IC TVS ARRAY 7V 12V SOT23; Part#: CDSOT23-SM712
footprint SOT23A (SOT-23; 3 Leads; Body 3.0 x 2.5 mm, inc. leads (LxW max))
pins: 1 0, 2 1, 3 1

## TVS Array LC03
designator D?, comment LC03-3.3BTG
TVS DIODE 3.3VWM 17VC 8SOIC; Cod. Protheus: ???; Fabricante: Bourns; Descrição: TVS DIODE 3.3VWM 17VC 8SOIC; Part#: LC03-3.3BTG
footprint 8-SOIC
pins: 1 Line in, 2 Ref, 3 Ref, 4 Line in, 5 Line out, 6 Ref, 7 Ref, 8 Line out

## TVS_P6SMB15CA
designator D?, comment TVS
footprint TVS
pins: 1 0, 2 1